# Altium footprint library ISENSIOT.PcbLib: 5 footprints
Each footprint in its own frame and in the unit in brackets; x right, y up, seen from the top. Pads: shape width x height; smd on the part's side, far side on the other; paste and mask are expansions set on the pad; w line width, h text height; cw(c..) or ccw(c..) is an arc to the next point about the centre after c.
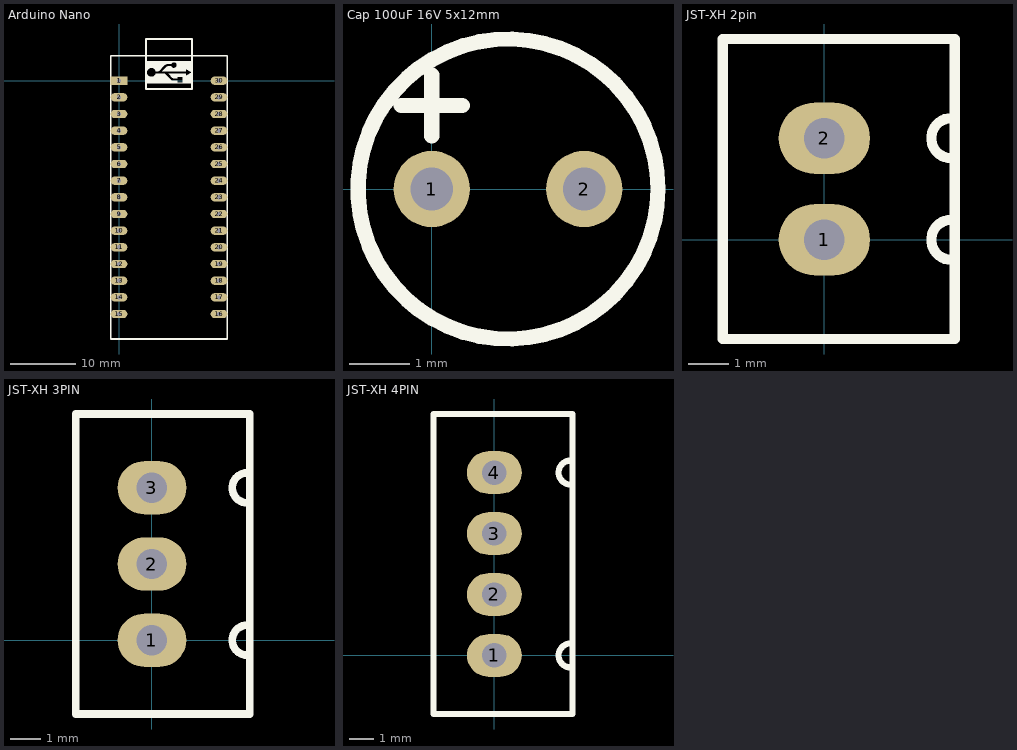
[diagram p0: the footprints below, top view; thin cyan lines are the x and y axes]

## Arduino Nano [mil] "Arduino Nano"
pads (30):
  rect 100x50 hole 25: 1(0,0)
  oval 100x50 hole 25: 2(0,-100) 3(0,-200) 4(0,-300) 5(0,-400) 6(0,-500) 7(0,-600) 8(0,-700) 9(0,-800) 10(0,-900) 11(0,-1000) 12(0,-1100) 13(0,-1200) 14(0,-1300) 15(0,-1400) 16(600,-1400) 17(600,-1300) 18(600,-1200) 19(600,-1100) 20(600,-1000) 21(600,-900) 22(600,-800) 23(600,-700) 24(600,-600) 25(600,-500) 26(600,-400) 27(600,-300) 28(600,-200) 29(600,-100) 30(600,0)
Top Overlay:
  region: 4 vertices and 1 holes, not listed, extent 162.69,-16.4 438.28,115.83
  lines w10: -50,-1550 650,-1550 650,150 -50,150 -50,-1550 ; 162.2,-50 437.8,-50 437.8,250 162.2,250 162.2,-50
3D body "arduino nano.STEP": height 496.06, standoff -236.22, extent -54.33,-1550.39 654.33,221.26

## Cap 100uF 16V 5x12mm [mil]
pads (2):
  round 50 hole 28: 1(0,0) 2(100,0)
Top Overlay:
  circle w10: c50,0 r98.43
  lines w10: -20,54.8 20,54.8 ; 0,34.8 0,74.8

## JST-XH 2pin [mil]
pads (2):
  oval 90x70 hole 40: 1(0,0) 2(0,100)
Top Overlay:
  lines w10: 125,-19.68 cw(c125,0) 125,19.68 ; 125,80.31 cw(c125,100) 125,119.69 ; -100,-97.64 128.35,-97.64 128.35,197.64 -100,197.64 -100,-97.64
3D body "JST 2.54X2P.step": height 275.59, standoff -118.11, extent -100.39,-99.21 124.02,197.64

## JST-XH 3PIN [mil]
pads (3):
  oval 90x70 hole 40: 1(0,0) 2(0,100) 3(0,200)
Top Overlay:
  lines w10: 125,-19.68 cw(c125,0) 125,19.68 ; 125,180.31 cw(c125,200) 125,219.69 ; -100,-96.85 128.35,-96.85 128.35,296.85 -100,296.85 -100,-96.85
3D body "JST 2.54X3P.step": height 275.59, standoff -118.11, extent -100.39,-99.21 124.02,297.64

## JST-XH 4PIN [mil]
pads (4):
  oval 90x70 hole 40: 1(0,0) 2(0,100) 3(0,200) 4(0,300)
Top Overlay:
  lines w10: 125,-19.68 cw(c125,0) 125,19.68 ; 125,280.31 cw(c125,300) 125,319.69 ; -100,-96.06 128.35,-96.06 128.35,396.06 -100,396.06 -100,-96.06
3D body "JST 2.54X4P.step": height 275.59, standoff -118.11, extent -100.39,-99.21 124.02,397.64